# EAGLE library part EDGE8 (library chip)
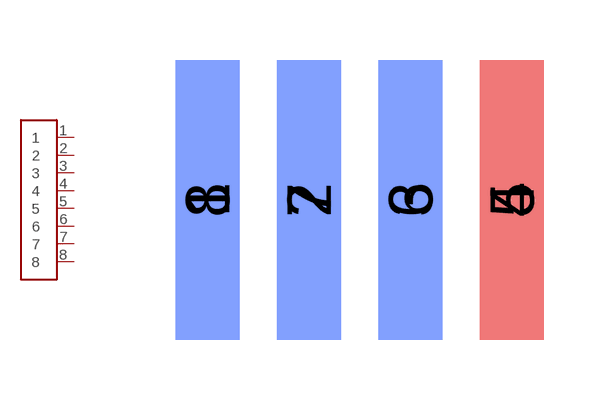
[diagram p1: symbol with the pads of EDGE8; footprint EDGE8]

Designator prefix -

## EDGE8  [EDGE8]
1  1
2  2
3  3
4  4
5  5
6  6
7  7
8  8

## Footprint EDGE8 (pad centres in mm)
smd 1.6 x 7: 1 -3.81,3.81; 2 -1.27,3.81; 3 1.27,3.81; 4 3.81,3.81
smd 1.6 x 7 bottom: 5 3.81,3.81; 6 1.27,3.81; 7 -1.27,3.81; 8 -3.81,3.81